# Altium footprint library MechanicalComponents.PcbLib: 27 footprints (part 2 of 2)
Each footprint in its own frame and in the unit in brackets; x right, y up, seen from the top. Pads: shape width x height; smd on the part's side, far side on the other; paste and mask are expansions set on the pad; w line width, h text height; cw(c..) or ccw(c..) is an arc to the next point about the centre after c.
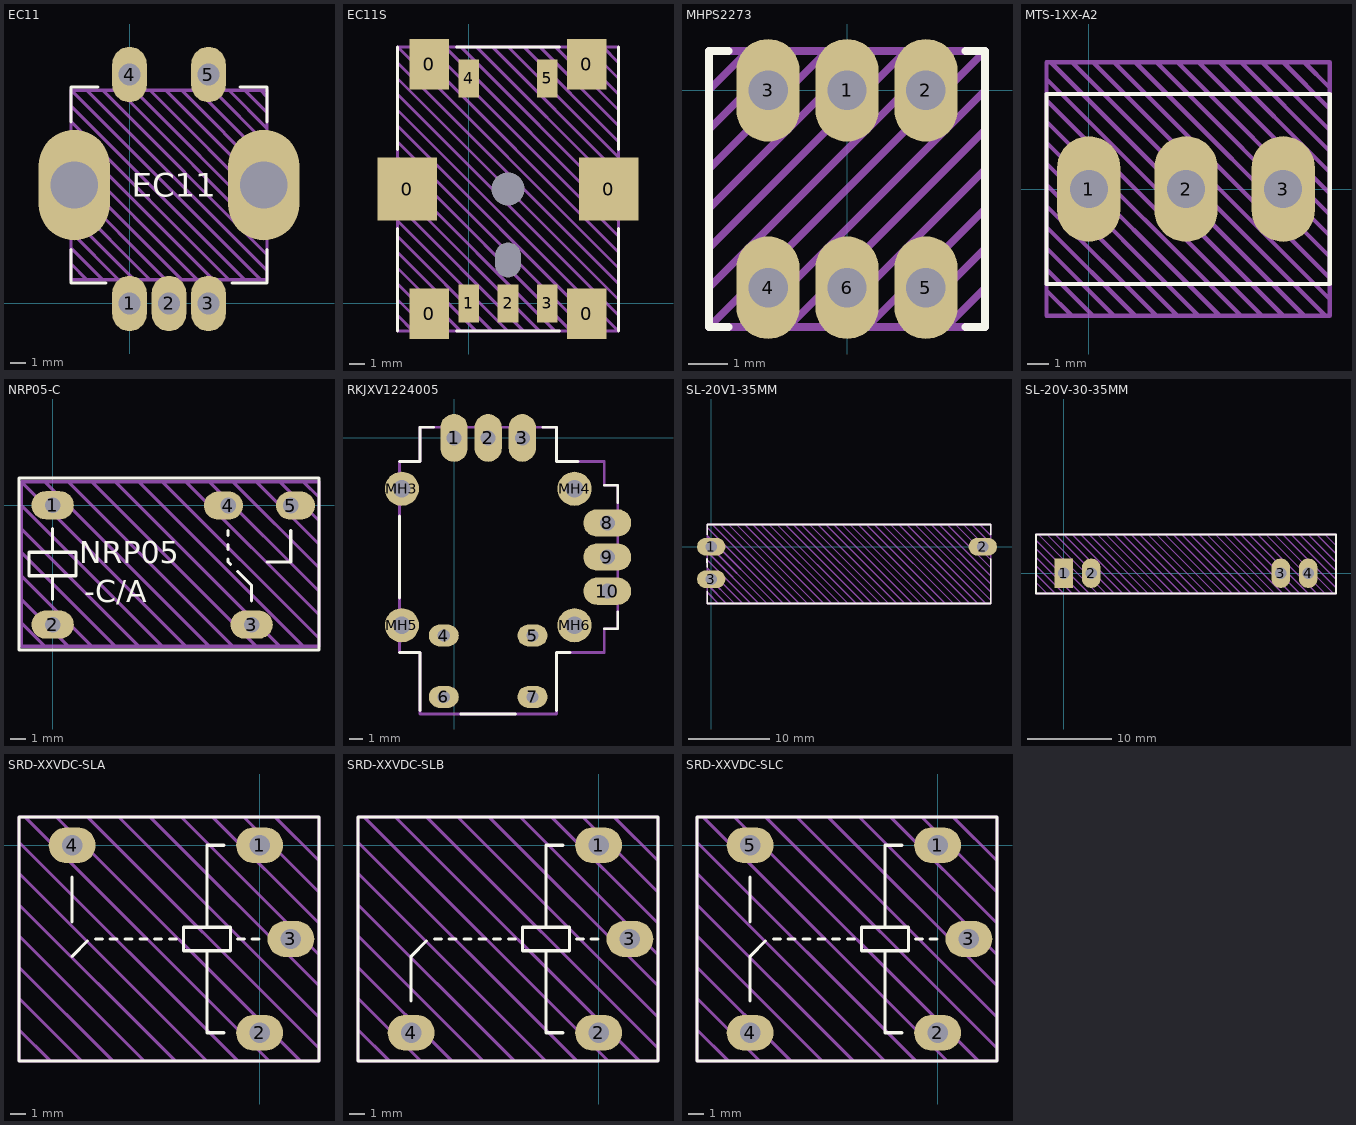
[diagram p1: the footprints below, top view; thin cyan lines are the x and y axes]

## EC11 [mm]
pads (7):
  oval 2.2x3.5 hole 1.4: 1(0,0) 2(2.5,0) 3(5,0) 4(0,14.5) 5(5,14.5)
  oval 4.5x7 hole 3: ""(-3.5,7.5) ""(8.5,7.5)
Top Overlay:
  lines w0.2: -3.7,3.4 -3.7,1.3 -1.5,1.3 ; -3.7,11.5 -3.7,13.7 -2,13.7 ; 6.5,1.3 8.7,1.3 8.7,3.4 ; 7,13.7 8.7,13.7 8.7,11.5
  text "EC11" at 0.126,6.75 h1.5
Top Draw:
  lines w0.2: -3.7,2.5 -2.7,1.5 ; -3.7,3.5 -1.7,1.5 ; -3.7,4.5 -0.7,1.5 ; -3.7,5.5 0.3,1.5 ; -3.7,6.5 1.3,1.5 ; -3.7,7.5 2.3,1.5 ; -3.7,8.5 3.3,1.5 ; -3.7,9.5 4.3,1.5 ; -3.7,10.5 5.3,1.5 ; -3.7,11.5 6.3,1.5 ; -3.7,12.5 7.3,1.5 ; -2.7,13.5 8.7,2.1 ; -1.7,13.5 8.7,3.1 ; -0.7,13.5 8.7,4.1 ; 0.3,13.5 8.7,5.1 ; 1.3,13.5 8.7,6.1 ; 2.3,13.5 8.7,7.1 ; 3.3,13.5 8.7,8.1 ; 4.3,13.5 8.7,9.1 ; 5.3,13.5 8.7,10.1 ; 6.3,13.5 8.7,11.1 ; 7.3,13.5 8.7,12.1 ; 8.3,1.5 -3.7,13.5 ; 8.3,13.5 8.7,13.1 ; -3.7,13.5 -3.7,1.5 8.7,1.5 8.7,13.5 -3.7,13.5
Top Info:
  text "'.Comment'" at -3.873,-3.975 h1.5
3D body "EC11-THT-15K-thread-green.step": height 19.5, standoff -3.5, extent -3.7,-0.2 8.7,14.7

## EC11S [mm]
pads (13):
  rect 3.75x4 smd: 0(-3.875,7.25) 0(8.875,7.25)
  rect 2.5x3.2 smd: 0(-2.5,-0.65) 0(-2.5,15.15) 0(7.5,-0.65) 0(7.5,15.15)
  rect 1.3x2.4 smd: 1(0,0) 2(2.5,0) 3(5,0) 4(0,14.25) 5(5,14.25)
  round 0 hole 1.6 slot 2.2 at 90 deg: ""(2.5,2.75)
  round 0 hole 2.1: ""(2.5,7.25)
Top Overlay:
  lines w0.2: -4.5,-1.75 -4.5,4.75 ; -4.5,9.75 -4.5,16.25 ; -0.75,-1.75 5.75,-1.75 ; -0.75,16.25 5.75,16.25 ; 9.5,-1.75 9.5,4.75 ; 9.5,9.75 9.5,16.25
Top Draw:
  lines w0.2: -4.5,-0.75 -3.5,-1.75 ; -4.5,0.25 -2.5,-1.75 ; -4.5,1.25 -1.5,-1.75 ; -4.5,2.25 -0.5,-1.75 ; -4.5,3.25 0.5,-1.75 ; -4.5,4.25 1.5,-1.75 ; -4.5,5.25 2.5,-1.75 ; -4.5,6.25 3.5,-1.75 ; -4.5,7.25 4.5,-1.75 ; -4.5,8.25 5.5,-1.75 ; -4.5,9.25 6.5,-1.75 ; -4.5,10.25 7.5,-1.75 ; -4.5,11.25 8.5,-1.75 ; -4.5,12.25 9.5,-1.75 ; -4.5,13.25 9.5,-0.75 ; -4.5,14.25 9.5,0.25 ; -4.5,15.25 9.5,1.25 ; -3.5,16.25 9.5,3.25 ; -2.5,16.25 9.5,4.25 ; -1.5,16.25 9.5,5.25 ; -0.5,16.25 9.5,6.25 ; 0.5,16.25 9.5,7.25 ; 1.5,16.25 9.5,8.25 ; 2.5,16.25 9.5,9.25 ; 3.5,16.25 9.5,10.25 ; 4.5,16.25 9.5,11.25 ; 5.5,16.25 9.5,12.25 ; 6.5,16.25 9.5,13.25 ; 7.5,16.25 9.5,14.25 ; 8.5,16.25 9.5,15.25 ; 9.5,2.25 -4.5,16.25 ; -4.5,16.25 -4.5,-1.75 9.5,-1.75 ; -4.5,16.25 9.5,16.25 9.5,-1.75
Top Info:
  text "'.Comment'" at -3.873,-4.425 h1.5
3D body "PEC11S-929K-S0015.step": height 14, standoff -1.2, extent -4.36,-1.68 9.36,16.18

## MHPS2273 [mm] "MHPS Series Key Switches"
pads (6):
  oval 1.6x2.6 hole 1: 1(0,0) 2(2,0) 3(-2,0) 4(-2,-5) 5(2,-5) 6(0,-5)
Top Overlay:
  lines w0.2: -3,-6 -3.5,-6 -3.5,1 -3,1 ; 3,-6 3.5,-6 3.5,1 3,1
Top Draw:
  lines w0.2: -3.5,-5 2.5,1 ; -3.5,-4 1.5,1 ; -3.5,-3 0.5,1 ; -3.5,-2 -0.5,1 ; -3.5,-1 -1.5,1 ; -3.5,0 -2.5,1 ; -2.5,-6 3.5,0 ; -1.5,-6 3.5,-1 ; -0.5,-6 3.5,-2 ; 0.5,-6 3.5,-3 ; 1.5,-6 3.5,-4 ; 2.5,-6 3.5,-5 ; -3.5,-6 3.5,1 ; -3.5,-6 3.5,-6 3.5,1 ; -3.5,-6 -3.5,1 3.5,1 ; 3.5,-5 3.5,-5 ; 3.5,-4 3.5,-4 ; 3.5,-3 3.5,-3 ; 3.5,0 3.5,0
Top Info:
  text "'.Comment'" at -4.249,-7.783 h1
3D body "MHPS2273.stp": height 12.5, standoff -3.5, extent -3.5,-6 3.5,1

## MTS-1XX-A2 [mm] "Miniature Toggle Switch"
pads (3):
  oval 3x5 hole 1.8: 1(0,0) 2(4.6,0) 3(9.2,0)
Top Overlay:
  lines w0.2: -2,-4.5 -2,4.5 11.4,4.5 11.4,-4.5 -2,-4.5
Top Draw:
  lines w0.2: -2,-4.8 -0.8,-6 ; -2,-3.8 0.2,-6 ; -2,-2.8 1.2,-6 ; -2,-1.8 2.2,-6 ; -2,-0.8 3.2,-6 ; -2,0.2 4.2,-6 ; -2,1.2 5.2,-6 ; -2,2.2 6.2,-6 ; -2,3.2 7.2,-6 ; -2,4.2 8.2,-6 ; -2,5.2 9.2,-6 ; -1.8,6 10.2,-6 ; -0.8,6 11.2,-6 ; 0.2,6 11.4,-5.2 ; 1.2,6 11.4,-4.2 ; 2.2,6 11.4,-3.2 ; 3.2,6 11.4,-2.2 ; 4.2,6 11.4,-1.2 ; 5.2,6 11.4,-0.2 ; 6.2,6 11.4,0.8 ; 7.2,6 11.4,1.8 ; 8.2,6 11.4,2.8 ; 9.2,6 11.4,3.8 ; 10.2,6 11.4,4.8 ; -2,-6 -2,6 11.4,6 11.4,-6 -2,-6
Top Info:
  text "'.Comment'" at -0.811,-7.829 h1.25
3D body "MTS-1xx-A2-blue.step": height 30.13, standoff -5.5, extent -2,-6 11.392,6

## NRP05-C [mm]
pads (5):
  oval 2.7x1.8 hole 1: 1(0,0) 2(0,-7.62) 3(12.7,-7.62)
  oval 2.5x1.8 hole 1 copper offset -0.3,0: 4(11.2,-0.02)
  oval 2.5x1.8 hole 1 copper offset 0.3,0: 5(15.2,-0.02)
Top Overlay:
  lines w0.2: 0,-6 0,-4.5 ; 0,-3 0,-1.5 ; 11.2,-3.42 11.2,-3.52 11.2,-3.62 11.35,-3.77 ; 11.2,-2.82 11.2,-2.52 ; 11.2,-1.92 11.2,-1.62 ; 12.7,-6.12 12.7,-5.12 11.8,-4.22 ; 13.7,-3.62 14.2,-3.62 15.2,-3.62 15.2,-1.62 ; 11.8,-4.22 11.8,-4.22 ; -2.15,-9.25 17,-9.25 17,1.75 -2.15,1.75 -2.15,-9.25 ; -1.5,-4.5 -1.5,-3 1.5,-3 1.5,-4.5 -1.5,-4.5
  text "-C/A" at 2,-6.2 h1.4
  text "NRP05" at 1.7,-3.7 h1.4
Top Draw:
  lines w0.2: -2,-6 1,-9 1.5,-9 ; -2,-4.5 2.5,-9 ; -2,-3 4,-9 ; -2,-1.5 5.5,-9 6,-9 ; -2,0 7,-9 7.5,-9 ; -0.5,-9 -2,-7.5 ; -0.5,1.5 10,-9 10.5,-9 ; 1,1.5 11.5,-9 ; 2.5,1.5 13,-9 ; 4,1.5 14.5,-9 ; 5.5,1.5 16,-9 ; 7,1.5 17,-8.5 ; 8.5,1.5 17,-7 17,-7.5 ; 9,-9 8.5,-9 -2,1.5 ; 10,1.5 17,-5.5 17,-6 ; 11.5,1.5 17,-4 ; 13,1.5 17,-2.5 17,-3 ; 14.5,1.5 17,-1 17,-1.5 ; 16,1.5 17,0.5 ; -2,-7.5 -2,-7.5 ; -2,1.5 -2,-9 17,-9 17,1.5 -2,1.5 ; 2.5,-9 2.5,-9 ; 17,0.5 17,0.5
Top Info:
  text "'.Comment'" at -1.905,-12.065 h2
3D body: height 1, standoff -3, extent 12.55,-8.02 12.85,-7.22
3D body: height 1, standoff -3, extent 15.039,-0.425 15.339,0.375
3D body: height 1, standoff -3, extent 11.051,-0.425 11.351,0.375
3D body: height 1, standoff -3, extent -0.15,-8 0.15,-7.2
3D body: height 1, standoff -3, extent -0.15,-0.4 0.15,0.4
3D body: height 15.6, standoff 0.4, extent -2,-9 16.9,1.5
3D body: height 0.6, standoff 0, extent 0.5,-9 1.8,-8.7
3D body: height 0.6, standoff 0, extent 12.7,-9 14,-8.7
3D body: height 0.6, standoff 0, extent 12.7,1.2 14,1.5
3D body: height 0.6, standoff 0, extent 0.5,1.2 1.8,1.5

## RKJXV1224005 [mm] "PS5 Analog Joystick"
pads (14):
  oval 2x3.5 hole 1.1: 1(0,0) 2(2.5,0) 3(5,0)
  oval 2.2x1.6 hole 0.9: 4(-0.75,-14.48) 5(5.75,-14.48) 6(-0.75,-18.98) 7(5.75,-18.98)
  oval 3.5x2 hole 1.1: 8(11.23,-6.23) 9(11.23,-8.73) 10(11.23,-11.23)
  round 2.5 hole 1.3: MH3(-3.825,-3.73) MH4(8.825,-3.73) MH5(-3.825,-13.73) MH6(8.825,-13.73)
Top Overlay:
  lines w0.2: -4,-15.73 -2.5,-15.73 -2.5,-19.98 ; -4,-11.73 -4,-5.73 ; -4,-1.73 -2.5,-1.73 -2.5,0.77 -1.5,0.77 ; 0.5,-20.23 4.5,-20.23 ; 6.5,0.77 7.5,0.77 7.5,-1.73 9.075,-1.73 ; 7.5,-19.98 7.5,-15.73 8.5,-15.73 ; 11,-13.98 12,-13.98 12,-12.73 ; 11,-3.48 12,-3.48 12,-4.73
Top Draw:
  lines w0.2: -4,-15.73 -2.5,-15.73 -2.5,-20.23 7.5,-20.23 7.5,-15.73 11,-15.73 11,-13.98 12,-13.98 12,-3.48 11,-3.48 11,-1.73 7.5,-1.73 7.5,0.77 -2.5,0.77 -2.5,-1.73 -4,-1.73 -4,-15.73
Top Info:
  text "'.Comment'" at -3.75,-22.48 h1.5
3D body "Joystick.stp": height 19.08, standoff -2.92, extent -4.026,-20.217 11.924,0.633

## SL-20V1-35MM [mm]
pads (3):
  oval 3.5x2.2 hole 1.4: 1(0,0) 2(33.5,0) 3(0,-4)
Top Overlay:
  lines w0.2: -0.512,-1.5 -0.5,-2.5 ; -0.5,-5.5 -0.5,-7 34.5,-7 34.5,-1.5 ; -0.5,1.5 -0.5,2.75 34.5,2.75 34.5,1.5
Top Draw:
  lines w0.2: -0.5,-5.625 0.875,-7 ; -0.5,-4.625 1.875,-7 ; -0.5,-3.625 2.875,-7 ; -0.5,-2.625 3.875,-7 ; -0.5,-1.625 4.875,-7 ; -0.5,-0.625 5.875,-7 ; -0.5,0.375 6.875,-7 ; -0.5,1.375 7.875,-7 ; -0.5,2.375 8.875,-7 ; 0.125,2.75 9.875,-7 ; 1.125,2.75 10.875,-7 ; 2.125,2.75 11.875,-7 ; 3.125,2.75 12.875,-7 ; 4.125,2.75 13.875,-7 ; 5.125,2.75 14.875,-7 ; 6.125,2.75 15.875,-7 ; 7.125,2.75 16.875,-7 ; 8.125,2.75 17.875,-7 ; 9.125,2.75 18.875,-7 ; 10.125,2.75 19.875,-7 ; 11.125,2.75 20.875,-7 ; 12.125,2.75 21.875,-7 ; 13.125,2.75 22.875,-7 ; 14.125,2.75 23.875,-7 ; 15.125,2.75 24.875,-7 ; 16.125,2.75 25.875,-7 ; 17.125,2.75 26.875,-7 ; 18.125,2.75 27.875,-7 ; 19.125,2.75 28.875,-7 ; 20.125,2.75 29.875,-7 ; 21.125,2.75 30.875,-7 ; 22.125,2.75 31.875,-7 ; 23.125,2.75 32.875,-7 ; 24.125,2.75 33.875,-7 ; 25.125,2.75 34.5,-6.625 ; 26.125,2.75 34.5,-5.625 ; 27.125,2.75 34.5,-4.625 ; 28.125,2.75 34.5,-3.625 ; 29.125,2.75 34.5,-2.625 ; 30.125,2.75 34.5,-1.625 ; 31.125,2.75 34.5,-0.625 ; 32.125,2.75 34.5,0.375 ; 33.125,2.75 34.5,1.375 ; -0.5,-7 34.5,-7 34.5,2.75 -0.5,2.75 -0.5,-7
Top Info:
  text "'.Comment'" at 10.627,-9.175 h1.5
3D body: height 5.5, standoff 5.4, extent 3,-0.6 31.5,2.7
3D body: height 5.5, standoff 5.4, extent 3,-6.8 31.5,-3.5
3D body: height 5.5, standoff 5, extent -0.5,-6.9 3.5,2.8
3D body: height 3, standoff 0.3, extent 6.3,2.6 9.8,2.8
3D body: height 3, standoff 0, extent 11.3,2.6 13.3,2.8
3D body: height 0.3, standoff 0, extent 11.3,2.1 13.3,2.8
3D body: height 0.3, standoff 0, extent 6.3,1.9 9.8,2.8
3D body: height 0.3, standoff 0, extent 24.2,1.9 27.7,2.8
3D body: height 0.3, standoff 0, extent 20.7,2.1 22.7,2.8
3D body: height 3, standoff 0, extent 20.7,2.6 22.7,2.8
3D body: height 3, standoff 0.3, extent 24.2,2.6 27.7,2.8
3D body: height 3, standoff 0.3, extent 24.2,-6.9 27.7,-6.7
3D body: height 3, standoff 0, extent 20.7,-6.9 22.7,-6.7
3D body: height 0.3, standoff 0, extent 20.7,-6.9 22.7,-6.2
3D body: height 0.3, standoff 0, extent 24.2,-6.9 27.7,-6
3D body: height 0.3, standoff 0, extent 6.3,-6.9 9.8,-6
3D body: height 0.3, standoff 0, extent 11.3,-6.9 13.3,-6.2
3D body: height 3, standoff 0, extent 11.3,-6.9 13.3,-6.7
3D body: height 3, standoff 0.3, extent 6.3,-6.9 9.8,-6.7
3D body: height 5.4, standoff 1.5, extent -0.4,-6.9 34.4,-6.7
3D body: height 5.4, standoff 1.5, extent -0.4,2.6 34.4,2.8
3D body: height 5.4, standoff 1.7, extent -0.5,-6.9 -0.2,2.8
3D body: height 5.4, standoff 1.7, extent 34.2,-6.9 34.5,2.8
3D body: height 1.5, standoff 0.1, extent -0.254,-0.7 0.254,0.7
3D body: height 0.1, standoff -1.78, extent 33.246,-0.508 33.754,0.508
3D body: height 0.1, standoff -1.78, extent -0.254,-4.508 0.254,-3.492
3D body: height 0.1, standoff -1.78, extent -0.254,-0.508 0.254,0.508
3D body: height 2, standoff 0.3, extent -0.2,-6.7 34.2,2.6
3D body: height 4.5, standoff 4, extent 5.427,-4.016 13.237,0.032
3D body: height 10.5, standoff 4.4, extent 6.6,-2.6 12.1,-1.4
3D body: height 1.5, standoff 0.1, extent -0.254,-4.7 0.254,-3.3
3D body: height 1.5, standoff 0.1, extent 33.746,-0.7 34.254,0.7
3D body: height 5.5, standoff 5, extent 30.5,-6.9 34.5,2.8
3D body: height 15.5, standoff 6, extent 7.5,-2.6 11.2,-1.4
3D body: height 5.5, standoff 4.5, extent 3,-4 3.5,0
3D body: height 5.5, standoff 4.5, extent 30.5,-4.3 31.05,-0.3
3D body: height 5.5, standoff 4.5, extent 3,-0.6 31.05,0
3D body: height 5.5, standoff 4.5, extent 3,-4.1 31.05,-3.5

## SL-20V-30-35MM [mm]
pads (4):
  rect 2.2x3.5 hole 1.4: 1(0,0)
  oval 2.2x3.5 hole 1.4: 2(3.25,0) 3(25.75,0) 4(29,0)
Top Overlay:
  lines w0.2: -3.3,-2.4 32.3,-2.4 32.3,4.6 -3.3,4.6 -3.3,-2.4
Top Draw:
  lines w0.2: -3.3,-1.1 -2,-2.4 ; -3.3,-0.1 -1,-2.4 ; -3.3,0.9 0,-2.4 ; -3.3,1.9 1,-2.4 ; -3.3,2.9 2,-2.4 ; -3.3,3.9 3,-2.4 ; -3,4.6 4,-2.4 ; -2,4.6 5,-2.4 ; -1,4.6 6,-2.4 ; 0,4.6 7,-2.4 ; 1,4.6 8,-2.4 ; 2,4.6 9,-2.4 ; 3,4.6 10,-2.4 ; 4,4.6 11,-2.4 ; 5,4.6 12,-2.4 ; 6,4.6 13,-2.4 ; 7,4.6 14,-2.4 ; 8,4.6 15,-2.4 ; 9,4.6 16,-2.4 ; 10,4.6 17,-2.4 ; 11,4.6 18,-2.4 ; 12,4.6 19,-2.4 ; 13,4.6 20,-2.4 ; 14,4.6 21,-2.4 ; 15,4.6 22,-2.4 ; 16,4.6 23,-2.4 ; 17,4.6 24,-2.4 ; 18,4.6 25,-2.4 ; 19,4.6 26,-2.4 ; 20,4.6 27,-2.4 ; 21,4.6 28,-2.4 ; 22,4.6 29,-2.4 ; 23,4.6 30,-2.4 ; 24,4.6 31,-2.4 ; 25,4.6 32,-2.4 ; 26,4.6 32.3,-1.7 ; 27,4.6 32.3,-0.7 ; 28,4.6 32.3,0.3 ; 29,4.6 32.3,1.3 ; 30,4.6 32.3,2.3 ; 31,4.6 32.3,3.3 ; -3.3,-2.4 -3.3,4.6 32.3,4.6 32.3,-2.4 -3.3,-2.4
Top Info:
  text "'.Comment'" at 8.127,-4.575 h1.5
3D body: height 6, standoff 3, extent 0.356,-0.803 0.508,3
3D body: height 2, standoff 0, extent 20.955,-2.413 23.495,-2.286
3D body: height 2, standoff 0, extent 5.461,-2.413 8.001,-2.286
3D body: height 2, standoff 0, extent 31.369,-2.413 32.258,-2.286
3D body: height 2, standoff 0, extent 31.369,4.445 32.258,4.572
3D body: height 2, standoff 0, extent -3.302,4.445 -2.413,4.572
3D body: height 2, standoff 0.1, extent -3.175,-2.286 32.131,4.445
3D body: height 6, standoff 0.9, extent -3.302,-2.159 -3.175,4.318
3D body: height 6, standoff 0.9, extent 32.131,-2.159 32.258,4.318
3D body: height 5.6, standoff 0.9, extent -3.302,-2.413 32.258,-2.286
3D body: height 5.6, standoff 0.9, extent -3.302,4.445 32.258,4.572
3D body: height 2, standoff 0, extent -3.302,-2.413 -2.413,-2.286
3D body: height 2, standoff 0, extent 5.461,4.445 8.001,4.572
3D body: height 2, standoff 0, extent 20.955,4.445 23.495,4.572
3D body: height 6, standoff 5.9, extent -3.302,-2.413 0.508,4.572
3D body: height 6, standoff 5.9, extent 28.448,-2.413 32.258,4.572
3D body: height 6, standoff 5.9, extent -3.302,2.794 32.258,4.572
3D body: height 6, standoff 5.9, extent -3.302,-2.413 32.258,-0.6
3D body: height 5.9, standoff 5, extent 2.032,-1 9.842,3.048
3D body: height 10, standoff 5.8, extent 3.175,0.635 8.636,1.397
3D body: height 0.1, standoff -1.78, extent -0.508,-0.254 0.508,0.254
3D body: height 0.1, standoff -1.78, extent 2.742,-0.254 3.758,0.254
3D body: height 0.1, standoff -1.78, extent 25.242,-0.254 26.258,0.254
3D body: height 0.1, standoff -1.78, extent 28.492,-0.254 29.508,0.254
3D body: height 6, standoff 3, extent 0.3,2.794 28.7,3
3D body: height 6, standoff 3, extent 0.2,-0.803 28.6,-0.597
3D body: height 6, standoff 3, extent 28.448,-0.803 28.6,3

## SRD-XXVDC-SLA [mm]
pads (4):
  oval 3x2.3 hole 1.3: 1(0,0) 2(0,-12) 3(2,-6) 4(-12,0)
Top Overlay:
  lines w0.2: -12,-7.1 -11.025,-6.125 ; -12,-4.9 -12,-2.05 ; -10.512,-6 -10.075,-6 ; -9.562,-6 -9.125,-6 ; -8.612,-6 -8.175,-6 ; -7.663,-6 -7.225,-6 ; -6.713,-6 -6.275,-6 ; -5.763,-6 -5.325,-6 ; -3.375,-6.75 -3.375,-12 -2.275,-12 ; -3.375,-5.25 -3.375,0 -2.275,0 ; -1.425,-6 -0.987,-6 ; -0.475,-6 -0.038,-6 ; -15.4,-13.8 3.8,-13.8 3.8,1.8 -15.4,1.8 -15.4,-13.8 ; -4.875,-6.75 -4.875,-5.25 -1.875,-5.25 -1.875,-6.75 -4.875,-6.75
Top Draw:
  lines w0.2: -15.4,-11.8 -13.4,-13.8 ; -15.4,-9.8 -11.4,-13.8 ; -15.4,-7.8 -9.4,-13.8 ; -15.4,-5.8 -7.4,-13.8 ; -15.4,-3.8 -5.4,-13.8 ; -15.4,-1.8 -3.4,-13.8 ; -15.4,0.2 -1.4,-13.8 ; -15,1.8 0.6,-13.8 ; -13,1.8 2.6,-13.8 ; -11,1.8 3.8,-13 ; -9,1.8 3.8,-11 ; -7,1.8 3.8,-9 ; -5,1.8 3.8,-7 ; -3,1.8 3.8,-5 ; -1,1.8 3.8,-3 ; 1,1.8 3.8,-1 ; -15.4,-13.8 -15.4,1.8 3.8,1.8 3.8,-13.8 -15.4,-13.8
Top Info:
  text "'.Comment'" at -15.4,-16.7 h2
3D body: height 15.8, standoff 0, extent -15.4,-13.8 3.8,1.8
3D body: height 1, standoff -3, extent 1.8,-6.55 2.2,-5.45
3D body: height 1, standoff -3, extent -0.3,-0.25 0.3,0.25
3D body: height 1, standoff -3, extent -0.3,-12.25 0.3,-11.75
3D body: height 1, standoff -3, extent -12.5,-0.25 -11.5,0.25

## SRD-XXVDC-SLB [mm]
pads (4):
  oval 3x2.3 hole 1.3: 1(0,0) 2(0,-12) 3(2,-6) 4(-12,-12)
Top Overlay:
  lines w0.2: -12,-9.95 -12,-7.1 -11.025,-6.125 ; -10.512,-6 -10.075,-6 ; -9.562,-6 -9.125,-6 ; -8.612,-6 -8.175,-6 ; -7.663,-6 -7.225,-6 ; -6.713,-6 -6.275,-6 ; -5.763,-6 -5.325,-6 ; -3.375,-6.75 -3.375,-12 -2.275,-12 ; -3.375,-5.25 -3.375,0 -2.275,0 ; -1.425,-6 -0.987,-6 ; -0.475,-6 -0.038,-6 ; -15.4,-13.8 3.8,-13.8 3.8,1.8 -15.4,1.8 -15.4,-13.8 ; -4.875,-6.75 -4.875,-5.25 -1.875,-5.25 -1.875,-6.75 -4.875,-6.75
Top Draw:
  lines w0.2: -15.4,-11.8 -13.4,-13.8 ; -15.4,-9.8 -11.4,-13.8 ; -15.4,-7.8 -9.4,-13.8 ; -15.4,-5.8 -7.4,-13.8 ; -15.4,-3.8 -5.4,-13.8 ; -15.4,-1.8 -3.4,-13.8 ; -15.4,0.2 -1.4,-13.8 ; -15,1.8 0.6,-13.8 ; -13,1.8 2.6,-13.8 ; -11,1.8 3.8,-13 ; -9,1.8 3.8,-11 ; -7,1.8 3.8,-9 ; -5,1.8 3.8,-7 ; -3,1.8 3.8,-5 ; -1,1.8 3.8,-3 ; 1,1.8 3.8,-1 ; -15.4,-13.8 -15.4,1.8 3.8,1.8 3.8,-13.8 -15.4,-13.8
Top Info:
  text "'.Comment'" at -15.4,-16.7 h2
3D body: height 15.8, standoff 0, extent -15.4,-13.8 3.8,1.8
3D body: height 1, standoff -3, extent 1.8,-6.55 2.2,-5.45
3D body: height 1, standoff -3, extent -0.3,-0.25 0.3,0.25
3D body: height 1, standoff -3, extent -0.3,-12.25 0.3,-11.75
3D body: height 1, standoff -3, extent -12.5,-12.25 -11.5,-11.75

## SRD-XXVDC-SLC [mm]
pads (5):
  oval 3x2.3 hole 1.3: 1(0,0) 2(0,-12) 3(2,-6) 4(-12,-12) 5(-12,0)
Top Overlay:
  lines w0.2: -12,-9.95 -12,-7.1 -11.025,-6.125 ; -12,-4.9 -12,-2.05 ; -10.512,-6 -10.075,-6 ; -9.562,-6 -9.125,-6 ; -8.612,-6 -8.175,-6 ; -7.663,-6 -7.225,-6 ; -6.713,-6 -6.275,-6 ; -5.763,-6 -5.325,-6 ; -3.375,-6.75 -3.375,-12 -2.275,-12 ; -3.375,-5.25 -3.375,0 -2.275,0 ; -1.425,-6 -0.987,-6 ; -0.475,-6 -0.038,-6 ; -15.4,-13.8 -15.4,1.8 3.8,1.8 3.8,-13.8 -15.4,-13.8 ; -4.875,-6.75 -1.875,-6.75 -1.875,-5.25 -4.875,-5.25 -4.875,-6.75
Top Draw:
  lines w0.2: -15.4,-11.8 -13.4,-13.8 ; -15.4,-9.8 -11.4,-13.8 ; -15.4,-7.8 -9.4,-13.8 ; -15.4,-5.8 -7.4,-13.8 ; -15.4,-3.8 -5.4,-13.8 ; -15.4,-1.8 -3.4,-13.8 ; -15.4,0.2 -1.4,-13.8 ; -15,1.8 0.6,-13.8 ; -13,1.8 2.6,-13.8 ; -11,1.8 3.8,-13 ; -9,1.8 3.8,-11 ; -7,1.8 3.8,-9 ; -5,1.8 3.8,-7 ; -3,1.8 3.8,-5 ; -1,1.8 3.8,-3 ; 1,1.8 3.8,-1 ; -15.4,-13.8 3.8,-13.8 3.8,1.8 -15.4,1.8 -15.4,-13.8
Top Info:
  text "'.Comment'" at -15.4,-16.7 h2
3D body: height 1, standoff -3, extent -12.5,-12.25 -11.5,-11.75
3D body: height 1, standoff -3, extent -12.5,-0.25 -11.5,0.25
3D body: height 1, standoff -3, extent -0.3,-12.25 0.3,-11.75
3D body: height 1, standoff -3, extent -0.3,-0.25 0.3,0.25
3D body: height 1, standoff -3, extent 1.8,-6.55 2.2,-5.45
3D body: height 15.8, standoff 0, extent -15.4,-13.8 3.8,1.8